# Altium schematic symbol library MG32F02A064AD48.SchLib: 1 symbol
Pins are listed as number, name and electrical type; pins without a type are passive.

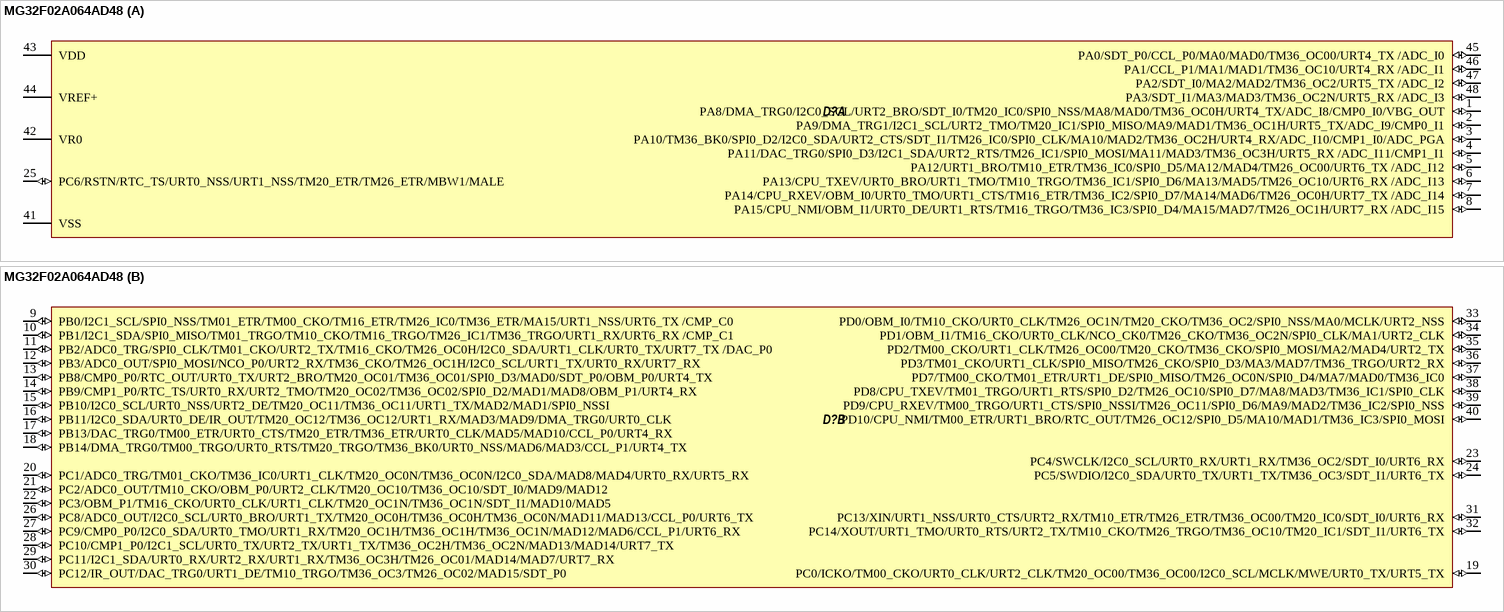
[diagram p0: symbol MG32F02A064AD48]

## MG32F02A064AD48
designator D?
part A pins: 1 PA8/DMA_TRG0/I2C0_SCL/URT2_BRO/SDT_I0/TM20_IC0/SPI0_NSS/MA8/MAD0/TM36_OC0H/URT4_TX/ADC_I8/CMP0_I0/VBG_OUT (io), 2 PA9/DMA_TRG1/I2C1_SCL/URT2_TMO/TM20_IC1/SPI0_MISO/MA9/MAD1/TM36_OC1H/URT5_TX/ADC_I9/CMP0_I1 (io), 3 PA10/TM36_BK0/SPI0_D2/I2C0_SDA/URT2_CTS/SDT_I1/TM26_IC0/SPI0_CLK/MA10/MAD2/TM36_OC2H/URT4_RX/ADC_I10/CMP1_I0/ADC_PGA (io), 4 PA11/DAC_TRG0/SPI0_D3/I2C1_SDA/URT2_RTS/TM26_IC1/SPI0_MOSI/MA11/MAD3/TM36_OC3H/URT5_RX /ADC_I11/CMP1_I1 (io), 5 PA12/URT1_BRO/TM10_ETR/TM36_IC0/SPI0_D5/MA12/MAD4/TM26_OC00/URT6_TX /ADC_I12 (io), 6 PA13/CPU_TXEV/URT0_BRO/URT1_TMO/TM10_TRGO/TM36_IC1/SPI0_D6/MA13/MAD5/TM26_OC10/URT6_RX /ADC_I13 (io), 7 PA14/CPU_RXEV/OBM_I0/URT0_TMO/URT1_CTS/TM16_ETR/TM36_IC2/SPI0_D7/MA14/MAD6/TM26_OC0H/URT7_TX /ADC_I14 (io), 8 PA15/CPU_NMI/OBM_I1/URT0_DE/URT1_RTS/TM16_TRGO/TM36_IC3/SPI0_D4/MA15/MAD7/TM26_OC1H/URT7_RX /ADC_I15 (io), 25 PC6/RSTN/RTC_TS/URT0_NSS/URT1_NSS/TM20_ETR/TM26_ETR/MBW1/MALE (io), 41 VSS (power), 42 VR0 (power), 43 VDD (power), 44 VREF+ (power), 45 PA0/SDT_P0/CCL_P0/MA0/MAD0/TM36_OC00/URT4_TX /ADC_I0 (io), 46 PA1/CCL_P1/MA1/MAD1/TM36_OC10/URT4_RX /ADC_I1 (io), 47 PA2/SDT_I0/MA2/MAD2/TM36_OC2/URT5_TX /ADC_I2 (io), 48 PA3/SDT_I1/MA3/MAD3/TM36_OC2N/URT5_RX /ADC_I3 (io)
part B pins: 9 PB0/I2C1_SCL/SPI0_NSS/TM01_ETR/TM00_CKO/TM16_ETR/TM26_IC0/TM36_ETR/MA15/URT1_NSS/URT6_TX /CMP_C0 (io), 10 PB1/I2C1_SDA/SPI0_MISO/TM01_TRGO/TM10_CKO/TM16_TRGO/TM26_IC1/TM36_TRGO/URT1_RX/URT6_RX /CMP_C1 (io), 11 PB2/ADC0_TRG/SPI0_CLK/TM01_CKO/URT2_TX/TM16_CKO/TM26_OC0H/I2C0_SDA/URT1_CLK/URT0_TX/URT7_TX /DAC_P0 (io), 12 PB3/ADC0_OUT/SPI0_MOSI/NCO_P0/URT2_RX/TM36_CKO/TM26_OC1H/I2C0_SCL/URT1_TX/URT0_RX/URT7_RX (io), 13 PB8/CMP0_P0/RTC_OUT/URT0_TX/URT2_BRO/TM20_OC01/TM36_OC01/SPI0_D3/MAD0/SDT_P0/OBM_P0/URT4_TX (io), 14 PB9/CMP1_P0/RTC_TS/URT0_RX/URT2_TMO/TM20_OC02/TM36_OC02/SPI0_D2/MAD1/MAD8/OBM_P1/URT4_RX (io), 15 PB10/I2C0_SCL/URT0_NSS/URT2_DE/TM20_OC11/TM36_OC11/URT1_TX/MAD2/MAD1/SPI0_NSSI (io), 16 PB11/I2C0_SDA/URT0_DE/IR_OUT/TM20_OC12/TM36_OC12/URT1_RX/MAD3/MAD9/DMA_TRG0/URT0_CLK (io), 17 PB13/DAC_TRG0/TM00_ETR/URT0_CTS/TM20_ETR/TM36_ETR/URT0_CLK/MAD5/MAD10/CCL_P0/URT4_RX (io), 18 PB14/DMA_TRG0/TM00_TRGO/URT0_RTS/TM20_TRGO/TM36_BK0/URT0_NSS/MAD6/MAD3/CCL_P1/URT4_TX (io), 19 PC0/ICKO/TM00_CKO/URT0_CLK/URT2_CLK/TM20_OC00/TM36_OC00/I2C0_SCL/MCLK/MWE/URT0_TX/URT5_TX (io), 20 PC1/ADC0_TRG/TM01_CKO/TM36_IC0/URT1_CLK/TM20_OC0N/TM36_OC0N/I2C0_SDA/MAD8/MAD4/URT0_RX/URT5_RX (io), 21 PC2/ADC0_OUT/TM10_CKO/OBM_P0/URT2_CLK/TM20_OC10/TM36_OC10/SDT_I0/MAD9/MAD12 (io), 22 PC3/OBM_P1/TM16_CKO/URT0_CLK/URT1_CLK/TM20_OC1N/TM36_OC1N/SDT_I1/MAD10/MAD5 (io), 23 PC4/SWCLK/I2C0_SCL/URT0_RX/URT1_RX/TM36_OC2/SDT_I0/URT6_RX (io), 24 PC5/SWDIO/I2C0_SDA/URT0_TX/URT1_TX/TM36_OC3/SDT_I1/URT6_TX (io), 26 PC8/ADC0_OUT/I2C0_SCL/URT0_BRO/URT1_TX/TM20_OC0H/TM36_OC0H/TM36_OC0N/MAD11/MAD13/CCL_P0/URT6_TX (io), 27 PC9/CMP0_P0/I2C0_SDA/URT0_TMO/URT1_RX/TM20_OC1H/TM36_OC1H/TM36_OC1N/MAD12/MAD6/CCL_P1/URT6_RX (io), 28 PC10/CMP1_P0/I2C1_SCL/URT0_TX/URT2_TX/URT1_TX/TM36_OC2H/TM36_OC2N/MAD13/MAD14/URT7_TX (io), 29 PC11/I2C1_SDA/URT0_RX/URT2_RX/URT1_RX/TM36_OC3H/TM26_OC01/MAD14/MAD7/URT7_RX (io), 30 PC12/IR_OUT/DAC_TRG0/URT1_DE/TM10_TRGO/TM36_OC3/TM26_OC02/MAD15/SDT_P0 (io), 31 PC13/XIN/URT1_NSS/URT0_CTS/URT2_RX/TM10_ETR/TM26_ETR/TM36_OC00/TM20_IC0/SDT_I0/URT6_RX (io), 32 PC14/XOUT/URT1_TMO/URT0_RTS/URT2_TX/TM10_CKO/TM26_TRGO/TM36_OC10/TM20_IC1/SDT_I1/URT6_TX (io), 33 PD0/OBM_I0/TM10_CKO/URT0_CLK/TM26_OC1N/TM20_CKO/TM36_OC2/SPI0_NSS/MA0/MCLK/URT2_NSS (io), 34 PD1/OBM_I1/TM16_CKO/URT0_CLK/NCO_CK0/TM26_CKO/TM36_OC2N/SPI0_CLK/MA1/URT2_CLK (io), 35 PD2/TM00_CKO/URT1_CLK/TM26_OC00/TM20_CKO/TM36_CKO/SPI0_MOSI/MA2/MAD4/URT2_TX (io), 36 PD3/TM01_CKO/URT1_CLK/SPI0_MISO/TM26_CKO/SPI0_D3/MA3/MAD7/TM36_TRGO/URT2_RX (io), 37 PD7/TM00_CKO/TM01_ETR/URT1_DE/SPI0_MISO/TM26_OC0N/SPI0_D4/MA7/MAD0/TM36_IC0 (io), 38 PD8/CPU_TXEV/TM01_TRGO/URT1_RTS/SPI0_D2/TM26_OC10/SPI0_D7/MA8/MAD3/TM36_IC1/SPI0_CLK (io), 39 PD9/CPU_RXEV/TM00_TRGO/URT1_CTS/SPI0_NSSI/TM26_OC11/SPI0_D6/MA9/MAD2/TM36_IC2/SPI0_NSS (io), 40 PD10/CPU_NMI/TM00_ETR/URT1_BRO/RTC_OUT/TM26_OC12/SPI0_D5/MA10/MAD1/TM36_IC3/SPI0_MOSI (io)